# EAGLE library part ENC28J60-MOD (library arno)
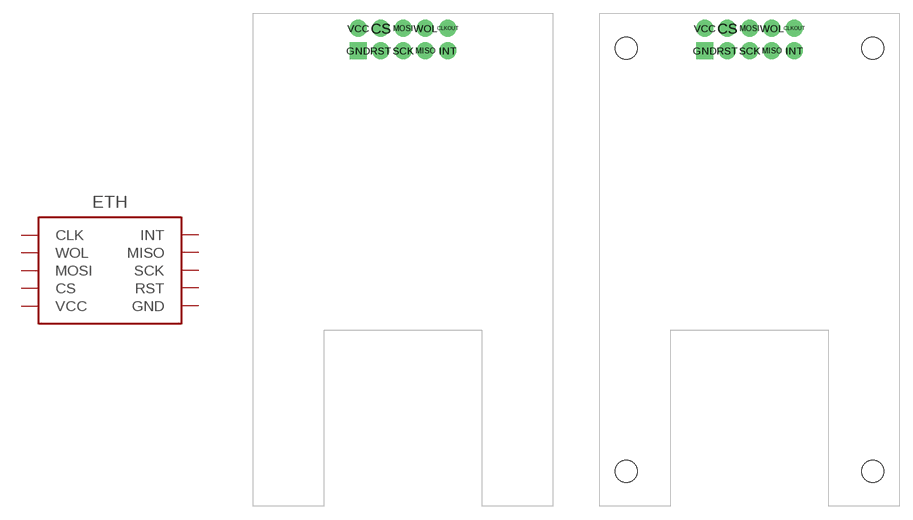
[diagram p11: symbol with the pads of ENC28J60-SMALL_MOD-NOHOLES; footprints ENC28J60-SMALL_MOD-NOHOLES, ENC28J60-SMALL_MOD]

Designator prefix ETH

## ENC28J60-MOD-S-NOHOLES  [ENC28J60-SMALL_MOD-NOHOLES]
CLKOUT  CLK  out
CS  CS  in
GND  GND  pwr
INT  INT  out
MISO  MISO  out
MOSI  MOSI  in
RST  RST  in
SCK  SCK  in
VCC  VCC  pwr
WOL  WOL  out

## ENC28J60-MOD-S  [ENC28J60-SMALL_MOD]
Pads as for ENC28J60-SMALL_MOD-NOHOLES

## ENC28J60-MOD-CON  [ENC28J60-CONNECTOR-ONLY]
Pads as for ENC28J60-SMALL_MOD-NOHOLES

## Footprint ENC28J60-SMALL_MOD-NOHOLES (pad centres in mm)
drill 1.016 pad 1.93: CLKOUT 5.08,1.27; CS -2.54,1.27; INT 5.08,-1.27; MISO 2.54,-1.27; MOSI 0,1.27; RST -2.54,-1.27; SCK 0,-1.27; VCC -5.08,1.27; WOL 2.54,1.27
drill 1.016 pad 1.93 square: GND -5.08,-1.27

## Footprint ENC28J60-SMALL_MOD (pad centres in mm)
drill 1.016 pad 1.93: CLKOUT 5.08,1.27; CS -2.54,1.27; INT 5.08,-1.27; MISO 2.54,-1.27; MOSI 0,1.27; RST -2.54,-1.27; SCK 0,-1.27; VCC -5.08,1.27; WOL 2.54,1.27
drill 1.016 pad 1.93 square: GND -5.08,-1.27
hole 2.5 at -14,-1
hole 2.5 at 14,-1
hole 2.5 at -14,-49
hole 2.5 at 14,-49

## Footprint ENC28J60-CONNECTOR-ONLY (pad centres in mm)
drill 1.016 pad 1.93: CLKOUT -5.08,1.27; CS 2.54,1.27; INT -5.08,-1.27; MISO -2.54,-1.27; MOSI 0,1.27; RST 2.54,-1.27; SCK 0,-1.27; VCC 5.08,1.27; WOL -2.54,1.27
drill 1.016 pad 1.93 square: GND 5.08,-1.27